# Altium footprint library adafruit.PCBLIB: 643 footprints (part 41 of 41)
Each footprint in its own frame and in the unit in brackets; x right, y up, seen from the top. Pads: shape width x height; smd on the part's side, far side on the other; paste and mask are expansions set on the pad; w line width, h text height; cw(c..) or ccw(c..) is an arc to the next point about the centre after c.
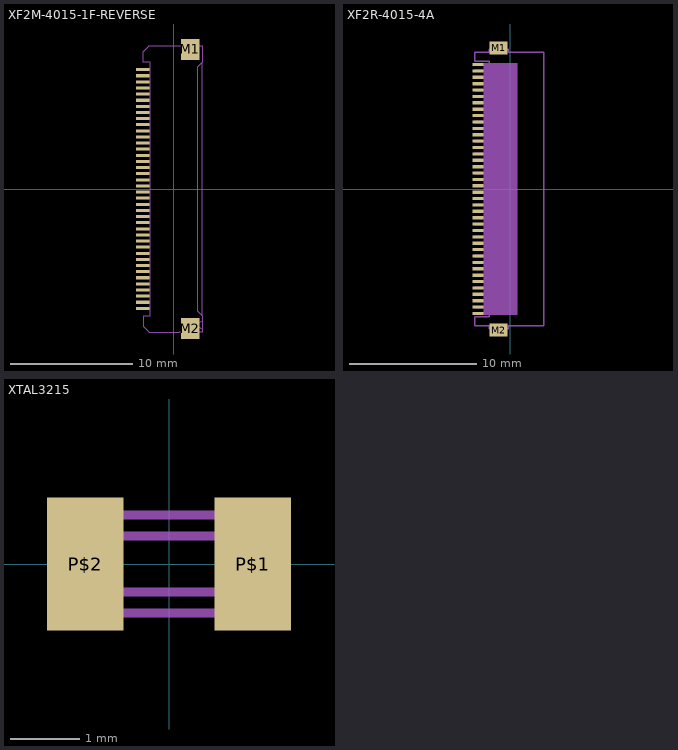
[diagram p40: the footprints below, top view; thin cyan lines are the x and y axes]

## XF2M-4015-1F-REVERSE [mil]
pads (42):
  rect 43.31x9.84 smd: 1(-100,383.86) 2(-100,364.17) 3(-100,344.49) 4(-100,324.8) 5(-100,305.12) 6(-100,285.43) 7(-100,265.75) 8(-100,246.06) 9(-100,226.38) 10(-100,206.69) 11(-100,187.01) 12(-100,167.32) 13(-100,147.64) 14(-100,127.95) 15(-100,108.27) 16(-100,88.58) 17(-100,68.9) 18(-100,49.21) 19(-100,29.53) 20(-100,9.84) 21(-100,-9.84) 22(-100,-29.53) 23(-100,-49.21) 24(-100,-68.9) 25(-100,-88.58) 26(-100,-108.27) 27(-100,-127.95) 28(-100,-147.64) 29(-100,-167.32) 30(-100,-187.01) 31(-100,-206.69) 32(-100,-226.38) 33(-100,-246.06) 34(-100,-265.75) 35(-100,-285.43) 36(-100,-305.12) 37(-100,-324.8) 38(-100,-344.49) 39(-100,-364.17) 40(-100,-383.86)
  rect 59.06x66.93 smd: M1(53.54,448.82) M2(53.54,-448.82)
Mechanical 2:
  lines w4: -98.03,-407.48 -98.03,-440.94 -78.35,-460.63 18.11,-460.63 ; -98.03,407.48 -98.03,440.94 -78.35,460.63 18.11,460.63 ; 90.94,-460.63 90.94,-407.48 ; 90.94,460.63 90.94,407.48 ; 90.94,-407.48 75.2,-391.73 75.2,391.73 90.94,407.48 ; 90.94,-407.48 90.94,407.48
Mechanical 18:
  region: -77.36,-380.91 -111.81,-380.91 -111.81,-386.81 -77.36,-386.81
  region: -77.36,-361.22 -111.81,-361.22 -111.81,-367.13 -77.36,-367.13
  region: -77.36,-341.54 -111.81,-341.54 -111.81,-347.44 -77.36,-347.44
  region: -77.36,-321.85 -111.81,-321.85 -111.81,-327.76 -77.36,-327.76
  region: -77.36,-302.17 -111.81,-302.17 -111.81,-308.07 -77.36,-308.07
  region: -77.36,-282.48 -111.81,-282.48 -111.81,-288.39 -77.36,-288.39
  region: -77.36,-262.8 -111.81,-262.8 -111.81,-268.7 -77.36,-268.7
  region: -77.36,-243.11 -111.81,-243.11 -111.81,-249.02 -77.36,-249.02
  region: -77.36,-223.43 -111.81,-223.43 -111.81,-229.33 -77.36,-229.33
  region: -77.36,-203.74 -111.81,-203.74 -111.81,-209.65 -77.36,-209.65
  region: -77.36,-184.06 -111.81,-184.06 -111.81,-189.96 -77.36,-189.96
  region: -77.36,-164.37 -111.81,-164.37 -111.81,-170.28 -77.36,-170.28
  region: -77.36,-144.69 -111.81,-144.69 -111.81,-150.59 -77.36,-150.59
  region: -77.36,-125 -111.81,-125 -111.81,-130.91 -77.36,-130.91
  region: -77.36,-105.32 -111.81,-105.32 -111.81,-111.22 -77.36,-111.22
  region: -77.36,-85.63 -111.81,-85.63 -111.81,-91.54 -77.36,-91.54
  region: -77.36,-65.94 -111.81,-65.94 -111.81,-71.85 -77.36,-71.85
  region: -77.36,-46.26 -111.81,-46.26 -111.81,-52.17 -77.36,-52.17
  region: -77.36,-26.57 -111.81,-26.57 -111.81,-32.48 -77.36,-32.48
  region: -77.36,-6.89 -111.81,-6.89 -111.81,-12.8 -77.36,-12.8
  region: -77.36,12.8 -111.81,12.8 -111.81,6.89 -77.36,6.89
  region: -77.36,32.48 -111.81,32.48 -111.81,26.57 -77.36,26.57
  region: -77.36,52.17 -111.81,52.17 -111.81,46.26 -77.36,46.26
  region: -77.36,71.85 -111.81,71.85 -111.81,65.94 -77.36,65.94
  region: -77.36,91.54 -111.81,91.54 -111.81,85.63 -77.36,85.63
  region: -77.36,111.22 -111.81,111.22 -111.81,105.32 -77.36,105.32
  region: -77.36,130.91 -111.81,130.91 -111.81,125 -77.36,125
  region: -77.36,150.59 -111.81,150.59 -111.81,144.69 -77.36,144.69
  region: -77.36,170.28 -111.81,170.28 -111.81,164.37 -77.36,164.37
  region: -77.36,189.96 -111.81,189.96 -111.81,184.06 -77.36,184.06
  region: -77.36,209.65 -111.81,209.65 -111.81,203.74 -77.36,203.74
  region: -77.36,229.33 -111.81,229.33 -111.81,223.43 -77.36,223.43
  region: -77.36,249.02 -111.81,249.02 -111.81,243.11 -77.36,243.11
  region: -77.36,268.7 -111.81,268.7 -111.81,262.8 -77.36,262.8
  region: -77.36,288.39 -111.81,288.39 -111.81,282.48 -77.36,282.48
  region: -77.36,308.07 -111.81,308.07 -111.81,302.17 -77.36,302.17
  region: -77.36,327.76 -111.81,327.76 -111.81,321.85 -77.36,321.85
  region: -77.36,347.44 -111.81,347.44 -111.81,341.54 -77.36,341.54
  region: -77.36,367.13 -111.81,367.13 -111.81,361.22 -77.36,361.22
  region: -77.36,386.81 -111.81,386.81 -111.81,380.91 -77.36,380.91
  lines w4: -98.03,-407.48 -75.39,-407.48 -75.39,407.48 -98.03,407.48 ; 18.11,-460.63 35.83,-460.63 35.83,-472.44 75.2,-472.44 75.2,-460.63 90.94,-460.63 ; 18.11,460.63 35.83,460.63 35.83,472.44 75.2,472.44 75.2,460.63 90.94,460.63 ; 90.94,-450.79 67.32,-437.01 90.94,-423.23

## XF2R-4015-4A [mm]
pads (42):
  rect 0.85x0.25 smd mask-0.425: 1(-2.54,9.75) 2(-2.54,9.25) 3(-2.54,8.75) 4(-2.54,8.25) 5(-2.54,7.75) 6(-2.54,7.25) 7(-2.54,6.75) 8(-2.54,6.25) 9(-2.54,5.75) 10(-2.54,5.25) 11(-2.54,4.75) 12(-2.54,4.25) 13(-2.54,3.75) 14(-2.54,3.25) 15(-2.54,2.75) 16(-2.54,2.25) 17(-2.54,1.75) 18(-2.54,1.25) 19(-2.54,0.75) 20(-2.54,0.25) 21(-2.54,-0.25) 22(-2.54,-0.75) 23(-2.54,-1.25) 24(-2.54,-1.75) 25(-2.54,-2.25) 26(-2.54,-2.75) 27(-2.54,-3.25) 28(-2.54,-3.75) 29(-2.54,-4.25) 30(-2.54,-4.75) 31(-2.54,-5.25) 32(-2.54,-5.75) 33(-2.54,-6.25) 34(-2.54,-6.75) 35(-2.54,-7.25) 36(-2.54,-7.75) 37(-2.54,-8.25) 38(-2.54,-8.75) 39(-2.54,-9.25) 40(-2.54,-9.75)
  rect 1.4x1 smd: M1(-0.915,11.05) M2(-0.915,-11.05)
Top Solder:
  rectangle: -2.99,9.6 -2.09,9.9
  rectangle: -2.99,9.1 -2.09,9.4
  rectangle: -2.99,8.6 -2.09,8.9
  rectangle: -2.99,8.1 -2.09,8.4
  rectangle: -2.99,7.6 -2.09,7.9
  rectangle: -2.99,7.1 -2.09,7.4
  rectangle: -2.99,6.6 -2.09,6.9
  rectangle: -2.99,6.1 -2.09,6.4
  rectangle: -2.99,5.6 -2.09,5.9
  rectangle: -2.99,5.1 -2.09,5.4
  rectangle: -2.99,4.6 -2.09,4.9
  rectangle: -2.99,4.1 -2.09,4.4
  rectangle: -2.99,3.6 -2.09,3.9
  rectangle: -2.99,3.1 -2.09,3.4
  rectangle: -2.99,2.6 -2.09,2.9
  rectangle: -2.99,2.1 -2.09,2.4
  rectangle: -2.99,1.6 -2.09,1.9
  rectangle: -2.99,1.1 -2.09,1.4
  rectangle: -2.99,0.6 -2.09,0.9
  rectangle: -2.99,0.1 -2.09,0.4
  rectangle: -2.99,-0.4 -2.09,-0.1
  rectangle: -2.99,-0.9 -2.09,-0.6
  rectangle: -2.99,-1.4 -2.09,-1.1
  rectangle: -2.99,-1.9 -2.09,-1.6
  rectangle: -2.99,-2.4 -2.09,-2.1
  rectangle: -2.99,-2.9 -2.09,-2.6
  rectangle: -2.99,-3.4 -2.09,-3.1
  rectangle: -2.99,-3.9 -2.09,-3.6
  rectangle: -2.99,-4.4 -2.09,-4.1
  rectangle: -2.99,-4.9 -2.09,-4.6
  rectangle: -2.99,-5.4 -2.09,-5.1
  rectangle: -2.99,-5.9 -2.09,-5.6
  rectangle: -2.99,-6.4 -2.09,-6.1
  rectangle: -2.99,-6.9 -2.09,-6.6
  rectangle: -2.99,-7.4 -2.09,-7.1
  rectangle: -2.99,-7.9 -2.09,-7.6
  rectangle: -2.99,-8.4 -2.09,-8.1
  rectangle: -2.99,-8.9 -2.09,-8.6
  rectangle: -2.99,-9.4 -2.09,-9.1
  rectangle: -2.99,-9.9 -2.09,-9.6
Mechanical 2:
  lines w0.102: -1.665,-10.725 -2.765,-10.725 -2.765,-10 -1.665,-10 -1.665,10 -2.765,10 -2.765,10.725 -1.665,10.725 ; -0.165,-10.725 2.635,-10.725 2.635,10.725 -0.165,10.725
Mechanical 12:
  region: 0.585,9.875 -2.09,9.875 -2.09,-9.875 0.585,-9.875
Mechanical 18:
  rectangle: -2.815,9.65 -1.715,9.85
  rectangle: -2.815,9.15 -1.715,9.35
  rectangle: -2.815,8.65 -1.715,8.85
  rectangle: -2.815,8.15 -1.715,8.35
  rectangle: -2.815,7.65 -1.715,7.85
  rectangle: -2.815,7.15 -1.715,7.35
  rectangle: -2.815,6.65 -1.715,6.85
  rectangle: -2.815,6.15 -1.715,6.35
  rectangle: -2.815,5.65 -1.715,5.85
  rectangle: -2.815,5.15 -1.715,5.35
  rectangle: -2.815,4.65 -1.715,4.85
  rectangle: -2.815,4.15 -1.715,4.35
  rectangle: -2.815,3.65 -1.715,3.85
  rectangle: -2.815,3.15 -1.715,3.35
  rectangle: -2.815,2.65 -1.715,2.85
  rectangle: -2.815,2.15 -1.715,2.35
  rectangle: -2.815,1.65 -1.715,1.85
  rectangle: -2.815,1.15 -1.715,1.35
  rectangle: -2.815,0.65 -1.715,0.85
  rectangle: -2.815,0.15 -1.715,0.35
  rectangle: -2.815,-0.35 -1.715,-0.15
  rectangle: -2.815,-0.85 -1.715,-0.65
  rectangle: -2.815,-1.35 -1.715,-1.15
  rectangle: -2.815,-1.85 -1.715,-1.65
  rectangle: -2.815,-2.35 -1.715,-2.15
  rectangle: -2.815,-2.85 -1.715,-2.65
  rectangle: -2.815,-3.35 -1.715,-3.15
  rectangle: -2.815,-3.85 -1.715,-3.65
  rectangle: -2.815,-4.35 -1.715,-4.15
  rectangle: -2.815,-4.85 -1.715,-4.65
  rectangle: -2.815,-5.35 -1.715,-5.15
  rectangle: -2.815,-5.85 -1.715,-5.65
  rectangle: -2.815,-6.35 -1.715,-6.15
  rectangle: -2.815,-6.85 -1.715,-6.65
  rectangle: -2.815,-7.35 -1.715,-7.15
  rectangle: -2.815,-7.85 -1.715,-7.65
  rectangle: -2.815,-8.35 -1.715,-8.15
  rectangle: -2.815,-8.85 -1.715,-8.65
  rectangle: -2.815,-9.35 -1.715,-9.15
  rectangle: -2.815,-9.85 -1.715,-9.65
  lines w0.102: -1.665,-10.725 -1.665,-10.95 -1.365,-10.95 -1.365,-11.45 -1.265,-11.45 -1.165,-11.35 -0.665,-11.35 -0.565,-11.45 -0.465,-11.45 -0.465,-10.95 -0.165,-10.95 -0.165,-10.725 ; -1.665,10.725 -1.665,10.95 -1.365,10.95 -1.365,11.45 -1.265,11.45 -1.165,11.35 -0.665,11.35 -0.565,11.45 -0.465,11.45 -0.465,10.95 -0.165,10.95 -0.165,10.725

## XTAL3215 [mil]
pads (2):
  rect 43.31x74.8 smd: P$1(47.24,0) P$2(-47.24,0)
Mechanical 2:
  lines w5: -62.99,-16.43 ccw(c-51.86,-16.43) -51.86,-27.56 51.86,-27.56 ccw(c51.86,-16.43) 62.99,-16.43 62.99,15.11 ccw(c50.54,15.11) 50.54,27.56 -54.19,27.56 ccw(c-54.19,18.76) -62.99,18.76 -62.99,-16.43 ; -51.18,-7.87 ccw(c-41.34,-5.91) -39.37,-15.75 39.37,-15.75 ccw(c39.37,-3.94) 51.18,-3.94 51.18,3.94 ccw(c39.37,3.94) 39.37,15.75 -43.31,15.75 ccw(c-41.34,5.91) -51.18,3.94 -51.18,-7.87